# Altium schematic symbol library MC34063.SchLib: 1 symbol
Pins are listed as number, name and electrical type; pins without a type are passive.

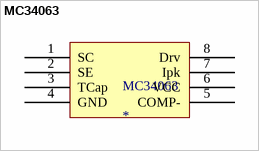
[diagram p0: symbol MC34063]

## MC34063
designator MC34063
footprint MC34063
pins: 1 SC, 2 SE, 3 TCap, 4 GND, 5 COMP-, 6 VCC, 7 Ipk, 8 Drv